# Altium integrated library Vishay-TrenchFET.IntLib: 2 symbols
Pins are listed as number, name and electrical type; pins without a type are passive.

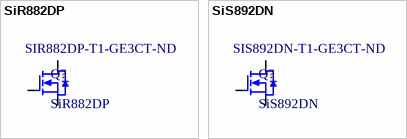
[diagram p0: symbols SiR882DP to SiS892DN]

## SiR882DP
designator Q?  Supplier Part Number 1: SIR882DP-T1-GE3CT-ND
Vishay / N-Channel 100 V (D-S) MOSFET / 60A; ComponentLink1Description: Datasheet; ComponentLink1URL: http://www.vishay.com/docs/66590/sis892dn.pdf; Supplier 1: Digi-Key
footprint PowerPAK SO-8 Single (Vishay PowerPAK SO-8 Single End)
pins: D, G, S

## SiS892DN
designator Q?  Supplier Part Number 1: SIS892DN-T1-GE3CT-ND
Vishay / N-Channel 100 V (D-S) MOSFET / 30A; ComponentLink1Description: Datasheet; ComponentLink1URL: http://www.vishay.com/docs/66590/sis892dn.pdf; Supplier 1: Digi-Key
footprint PowerPAK 1212-8 Single (Vishay PowerPAK 1212-8 Single End)
pins: D, G, S